# Altium footprint library CarrierBoard.PcbLib: 40 footprints (part 1 of 3)
Each footprint in its own frame and in the unit in brackets; x right, y up, seen from the top. Pads: shape width x height; smd on the part's side, far side on the other; paste and mask are expansions set on the pad; w line width, h text height; cw(c..) or ccw(c..) is an arc to the next point about the centre after c.
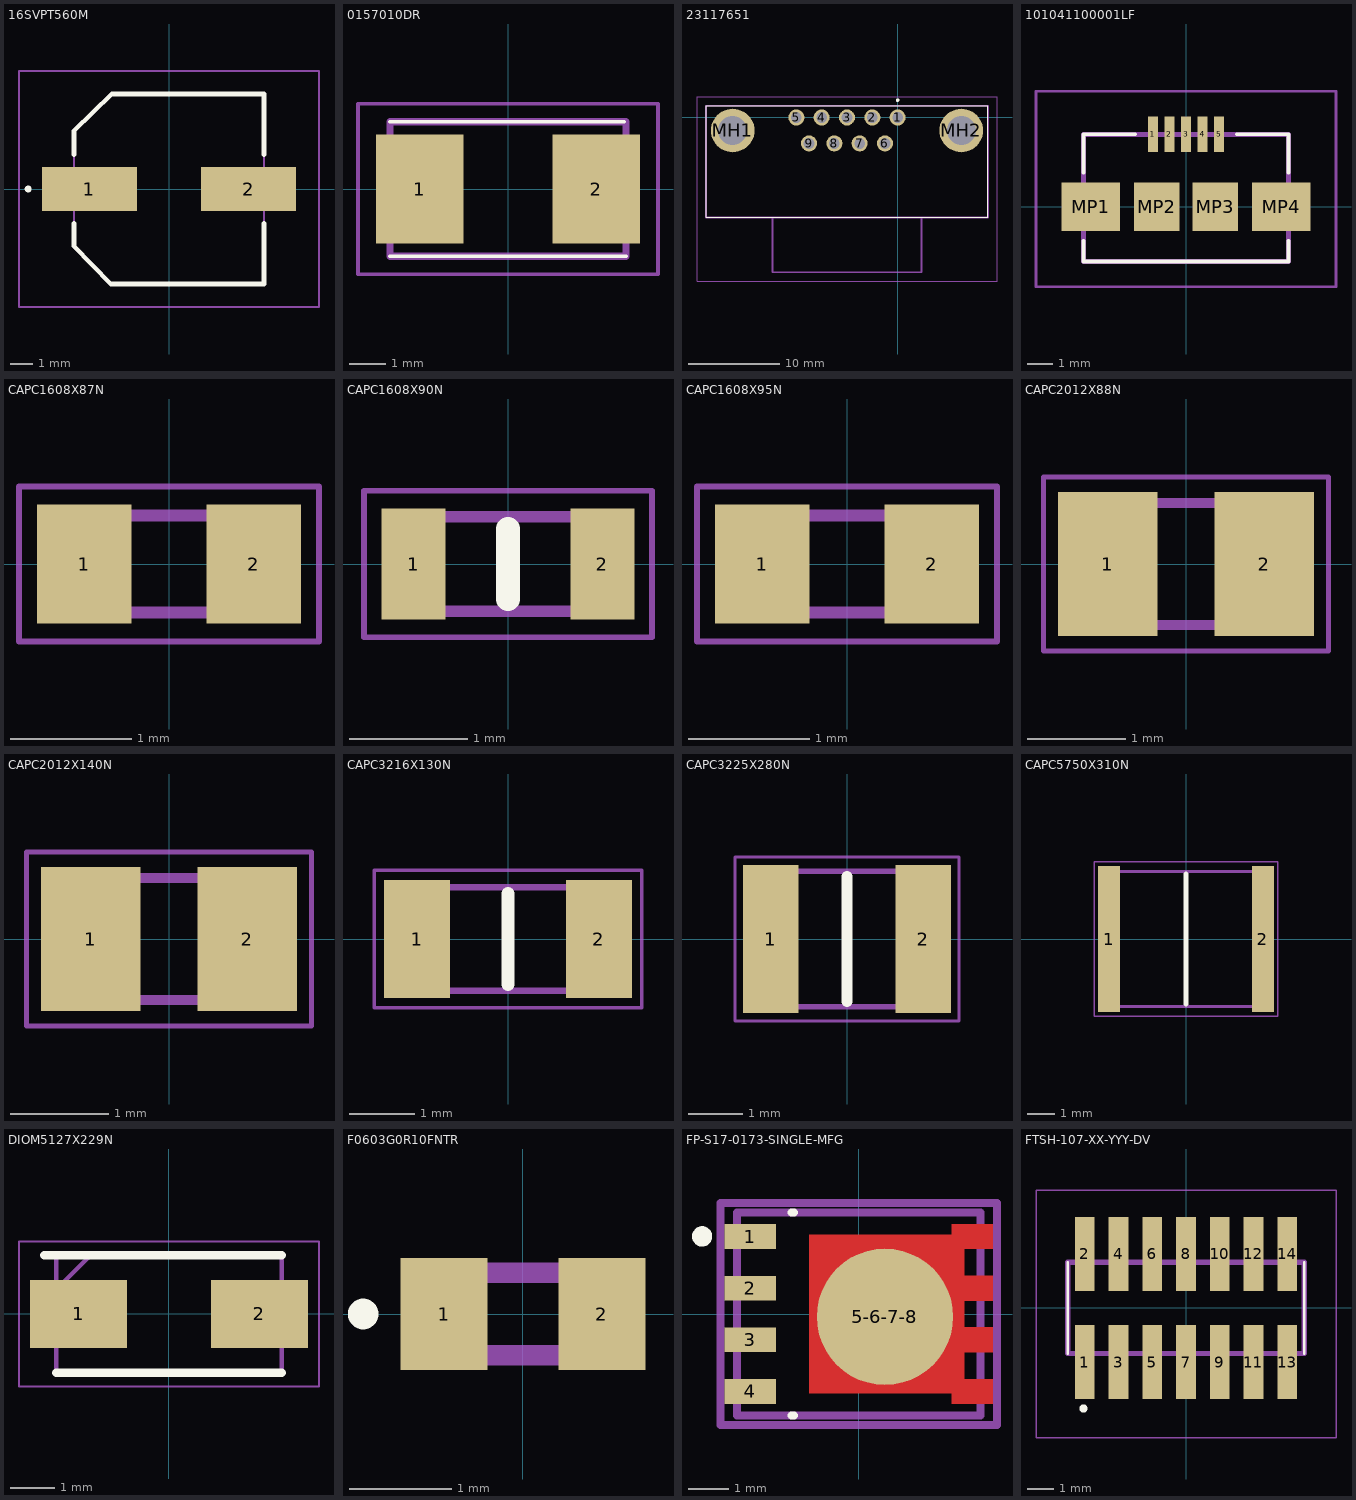
[diagram p0: the footprints below, top view; thin cyan lines are the x and y axes]

## 16SVPT560M [mm]
pads (2):
  rect 4.15x1.9 smd: 1(-3.475,0) 2(3.475,0)
Top Overlay:
  lines w0.2: -4.15,-1.5 -4.15,-2.5 -2.54,-4.15 4.15,-4.15 4.15,-1.5 ; -4.15,1.5 -4.15,2.54 -2.5,4.15 4.15,4.15 4.15,1.5 ; -6.2,0 ccw(c-6.15,0) -6.1,0 ; -6.2,0 cw(c-6.15,0) -6.1,0 ; -6.2,0 ccw(c-6.15,0) -6.1,0
Mechanical 13:
  lines w0.1: -4.15,-2.54 -4.15,2.54 -2.54,4.15 4.15,4.15 4.15,-4.15 -2.54,-4.15 -4.15,-2.54
Mechanical 15:
  lines w0.1: -6.55,-5.15 6.55,-5.15 6.55,5.15 -6.55,5.15 -6.55,-5.15
3D body "35SVPF82M.stp": height 0.61, standoff 0.61, extent 0,0 0,0
3D body "8 SIZE CODE E12.stp": height 11.96, standoff 0.06, extent -4.5,-4.15 4.5,4.15

## 0157010DR [mm]
pads (2):
  rect 2.4x3 smd: 1(-2.43,0) 2(2.43,0)
Top Overlay:
  lines w0.1: -3.25,-1.85 3.25,-1.85 ; -3.25,1.85 3.2,1.85
Mechanical 13:
  lines w0.2: -3.25,-1.85 -3.25,1.85 3.25,1.85 3.25,-1.85 -3.25,-1.85
Mechanical 15:
  lines w0.1: -4.13,-2.35 -4.13,2.35 4.13,2.35 4.13,-2.35 -4.13,-2.35

## 23117651 [mm]
pads (11):
  round 1.755 hole 1.17: 1(0,0) 2(-2.77,0) 3(-5.54,0) 4(-8.31,0) 5(-11.08,0) 6(-1.385,-2.84) 7(-4.155,-2.84) 8(-6.925,-2.84) 9(-9.695,-2.84)
  round 4.77 hole 3.18: MH1(-18.04,-1.42) MH2(6.96,-1.42)
Top Overlay:
  lines w0.1: -20.945,-10.92 9.865,-10.92 9.865,1.28 -20.945,1.28 -20.945,-10.92
  lines w0.2: -0.1,1.9 cw(c0,1.9) 0.1,1.9 cw(c0,1.9) -0.1,1.9
Mechanical 13:
  lines w0.2: -13.69,-10.92 -13.69,-16.92 2.61,-16.92 2.61,-10.92 ; -20.945,-10.92 9.865,-10.92 9.865,1.28 -20.945,1.28 -20.945,-10.92
Mechanical 15:
  lines w0.1: -21.945,-17.92 10.865,-17.92 10.865,2.28 -21.945,2.28 -21.945,-17.92
3D body "2311765-1.stp": height 12.63, standoff -4.02, extent -20.945,-16.92 9.865,1.28

## 101041100001LF [mm]
pads (9):
  rect 0.4x1.4 smd: 1(-1.3,2.85) 2(-0.65,2.85) 3(0,2.85) 4(0.65,2.85) 5(1.3,2.85)
  rect 2.3x1.9 smd: MP1(-3.75,0) MP4(3.75,0)
  rect 1.8x1.9 smd: MP2(-1.15,0) MP3(1.15,0)
Top Overlay:
  lines w0.15: -4.03,-1.35 -4.03,-2.15 4.03,-2.15 4.03,-1.35 ; -4.03,1.35 -4.03,2.85 -2,2.85 ; 2,2.85 4.03,2.85 4.03,1.35
Mechanical 13:
  lines w0.2: -4.03,-2.15 4.03,-2.15 4.03,2.85 -4.03,2.85 -4.03,-2.15
Mechanical 15:
  lines w0.1: -5.9,-3.15 5.9,-3.15 5.9,4.55 -5.9,4.55 -5.9,-3.15
3D body "10104110-0001LF.stp": height 2.76, standoff -0.27, extent -4.039,-2.765 4.039,2.799

## CAPC1608X87N [mm]
pads (2):
  rect 0.78x0.98 smd: 1(-0.7,0) 2(0.7,0)
Mechanical 13:
  lines w0.1: -0.8,-0.4 0.8,-0.4 0.8,0.4 -0.8,0.4 -0.8,-0.4
Mechanical 15:
  lines w0.05: -1.24,-0.64 1.24,-0.64 1.24,0.64 -1.24,0.64 -1.24,-0.64
3D body "C0603C101J5RACTU.stp": height 0.87, standoff 0, extent -0.8,-0.4 0.8,0.4

## CAPC1608X90N [mm]
pads (2):
  rect 0.54x0.94 smd: 1(-0.8,0) 2(0.8,0)
Top Overlay:
  lines w0.2: 0,-0.3 0,0.3
Mechanical 13:
  lines w0.1: -0.8,-0.4 0.8,-0.4 0.8,0.4 -0.8,0.4 -0.8,-0.4
Mechanical 15:
  lines w0.05: -1.22,-0.62 1.22,-0.62 1.22,0.62 -1.22,0.62 -1.22,-0.62
3D body "CGA3E2X7R1H683K080AA.stp": height 0.9, standoff 0, extent -0.8,-0.4 0.8,0.4

## CAPC1608X95N [mm]
pads (2):
  rect 0.78x0.98 smd: 1(-0.7,0) 2(0.7,0)
Mechanical 13:
  lines w0.1: -0.8,-0.4 0.8,-0.4 0.8,0.4 -0.8,0.4 -0.8,-0.4
Mechanical 15:
  lines w0.05: -1.24,-0.64 1.24,-0.64 1.24,0.64 -1.24,0.64 -1.24,-0.64
3D body "C0603C104M4RACTU.stp": height 0.95, standoff 0, extent -0.8,-0.4 0.8,0.4

## CAPC2012X88N [mm]
pads (2):
  rect 1.02x1.47 smd: 1(-0.8,0) 2(0.8,0)
Mechanical 13:
  lines w0.1: -1,-0.625 1,-0.625 1,0.625 -1,0.625 -1,-0.625
Mechanical 15:
  lines w0.05: -1.46,-0.89 1.46,-0.89 1.46,0.89 -1.46,0.89 -1.46,-0.89
3D body "C0805C104M5RACTU.stp": height 0.88, standoff 0, extent -1,-0.625 1,0.625

## CAPC2012X140N [mm]
pads (2):
  rect 1.02x1.47 smd: 1(-0.8,0) 2(0.8,0)
Mechanical 13:
  lines w0.1: -1,-0.625 1,-0.625 1,0.625 -1,0.625 -1,-0.625
Mechanical 15:
  lines w0.05: -1.46,-0.89 1.46,-0.89 1.46,0.89 -1.46,0.89 -1.46,-0.89
3D body "C0805C475J4RACAUTO.stp": height 1.4, standoff 0, extent -1,-0.625 1,0.625

## CAPC3216X130N [mm]
pads (2):
  rect 1.02x1.82 smd: 1(-1.4,0) 2(1.4,0)
Top Overlay:
  lines w0.2: 0,-0.7 0,0.7
Mechanical 13:
  lines w0.1: -1.6,-0.8 1.6,-0.8 1.6,0.8 -1.6,0.8 -1.6,-0.8
Mechanical 15:
  lines w0.05: -2.06,-1.06 2.06,-1.06 2.06,1.06 -2.06,1.06 -2.06,-1.06
3D body "C1206C105M5RECTU.stp": height 1.3, standoff 0, extent -1.6,-0.8 1.6,0.8

## CAPC3225X280N [mm]
pads (2):
  rect 1.02x2.72 smd: 1(-1.4,0) 2(1.4,0)
Top Overlay:
  lines w0.2: 0,-1.15 0,1.15
Mechanical 13:
  lines w0.1: -1.6,-1.25 1.6,-1.25 1.6,1.25 -1.6,1.25 -1.6,-1.25
Mechanical 15:
  lines w0.05: -2.06,-1.51 2.06,-1.51 2.06,1.51 -2.06,1.51 -2.06,-1.51
3D body "C1210C106K5RACTU.stp": height 2.8, standoff 0, extent -1.6,-1.25 1.6,1.25

## CAPC5750X310N [mm]
pads (2):
  rect 0.81x5.41 smd: 1(-2.85,0) 2(2.85,0)
Top Overlay:
  lines w0.2: 0,-2.4 0,2.4
Mechanical 13:
  lines w0.1: -2.85,-2.5 2.85,-2.5 2.85,2.5 -2.85,2.5 -2.85,-2.5
Mechanical 15:
  lines w0.05: -3.405,-2.86 3.405,-2.86 3.405,2.86 -3.405,2.86 -3.405,-2.86
3D body "C5750X7S2A106K230KB.stp": height 3.07, standoff 0.03, extent -2.65,-2.45 2.65,2.45

## DIOM5127X229N [mm]
pads (2):
  rect 2.2x1.55 smd: 1(-2.05,0) 2(2.05,0)
Top Overlay:
  lines w0.2: -2.825,1.332 2.552,1.332 ; -2.552,-1.332 2.552,-1.332
Mechanical 13:
  lines w0.1: -2.552,0.558 -1.778,1.332 ; -2.552,-1.332 2.552,-1.332 2.552,1.332 -2.552,1.332 -2.552,-1.332
Mechanical 15:
  lines w0.05: -3.4,-1.645 3.4,-1.645 3.4,1.645 -3.4,1.645 -3.4,-1.645
3D body "BZG03C33-HM3-08.stp": height 2.29, standoff 0, extent -2.552,-1.332 2.552,1.332

## F0603G0R10FNTR [mm]
pads (2):
  rect 0.85x1.1 smd: 1(-0.775,0) 2(0.775,0)
Top Overlay:
  lines w0.2: -1.619,0 ccw(c-1.569,0) -1.519,0 ; -1.619,0 cw(c-1.569,0) -1.519,0 ; -1.619,0 ccw(c-1.569,0) -1.519,0
Mechanical 13:
  lines w0.2: -0.8,-0.405 0.8,-0.405 0.8,0.405 -0.8,0.405 -0.8,-0.405
3D body "User Library-ptc06032-1.step": height 0.75, standoff 0, extent -0.8,-0.375 0.8,0.375

## FP-S17-0173-SINGLE-MFG [mil]
pads (5):
  rect 50x24 smd paste+0 mask+0: 1(-105,75) 2(-105,25) 3(-105,-25) 4(-105,-75)
  round 132.13 smd paste+0 mask+0: 5-6-7-8(25.41,-2.72)
Top Layer:
  region: -48,77 90,77 90,87 130,87 130,63 102,63 102,37 130,37 130,13 102,13 102,-13 130,-13 130,-37 102,-37 102,-63 130,-63 130,-87 90,-87 90,-77 -48,-77
Top Overlay:
  circle w9.84: c-151.77,75.19 r4.92
  lines w7.87: -65.24,-98.43 -62.76,-98.43 ; -65.24,98.43 -62.76,98.43
Top 3D Body:
  lines w7.87: -117.91,-98.43 117.91,-98.43 117.91,98.43 -117.91,98.43 -117.91,-98.43
Top Courtyard:
  lines w7.87: -133.94,-107.48 133.94,-107.48 133.94,107.48 -133.94,107.48 -133.94,-107.48
Top Assembly:
  lines w7.87: -133.94,-107.48 133.94,-107.48 133.94,107.48 -133.94,107.48 -133.94,-107.48
  text ".Designator" at 0,7.39 h39.37
Top Component Center:
  lines w3.94: -19.68,0 19.68,0 ; 0,-19.68 0,19.68
3D body "Trans_Vishay_SIR186DP-T1-RE3_eec.STEP": height 10, standoff 0, extent -133.94,-107.48 133.94,107.48

## FTSH-107-XX-YYY-DV [mm]
pads (14):
  rect 0.74x2.79 smd: 1(-3.81,-2.035) 2(-3.81,2.035) 3(-2.54,-2.035) 4(-2.54,2.035) 5(-1.27,-2.035) 6(-1.27,2.035) 7(0,-2.035) 8(0,2.035) 9(1.27,-2.035) 10(1.27,2.035) 11(2.54,-2.035) 12(2.54,2.035) 13(3.81,-2.035) 14(3.81,2.035)
Top Overlay:
  circle w0.2: c-3.86,-3.785 r0.05
  lines w0.1: -4.445,-1.715 -4.445,1.715 ; 4.445,-1.715 4.445,1.715
Mechanical 13:
  lines w0.2: -4.445,-1.715 -4.445,1.715 4.445,1.715 4.445,-1.715 -4.445,-1.715
Mechanical 15:
  lines w0.05: -5.645,-4.885 -5.645,4.43 5.645,4.43 5.645,-4.885 -5.645,-4.885
3D body "FTSH-107-01-F-DV.stp": height 5.96, standoff -0.01, extent -4.42,-2.997 4.47,2.845